# EAGLE library part 74CBTLV16210 (library 74CBTLV16210__DGG)
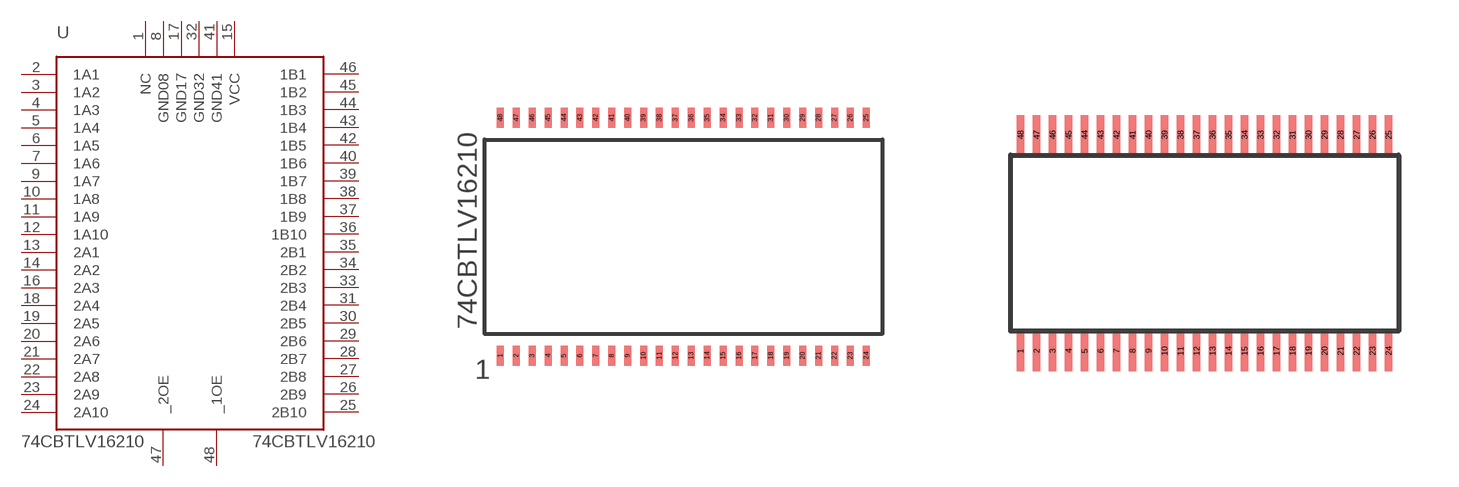
[diagram p0: symbol with the pads of 74CBTLV16210; footprints 74CBTLV16210, 74CBTLV16210_DGV]

Designator prefix -

## 74CBTLV16210DGG  [74CBTLV16210]
1  NC  nc
2  1A1
3  1A2
4  1A3
5  1A4
6  1A5
7  1A6
8  GND08  pwr
9  1A7
10  1A8
11  1A9
12  1A10
13  2A1  in
14  2A2  in
15  VCC  pwr
16  2A3  in
17  GND17  pwr
18  2A4  in
19  2A5  in
20  2A6  in
21  2A7  in
22  2A8  in
23  2A9  in
24  2A10  in
25  2B10  out
26  2B9  out
27  2B8  out
28  2B7  out
29  2B6  out
30  2B5  out
31  2B4  out
32  GND32  pwr
33  2B3  out
34  2B2  out
35  2B1  out
36  1B10  out
37  1B9  out
38  1B8  out
39  1B7  out
40  1B6  out
41  GND41  pwr
42  1B5  out
43  1B4  out
44  1B3  out
45  1B2  out
46  1B1  out
47  _2OE  out
48  _1OE  out

## 74CBTLV16210  [74CBTLV16210_DGV]
Pads as for 74CBTLV16210

## Footprint 74CBTLV16210 (pad centres in mm)
smd 0.22 x 0.625: 1 -5.75,-3.737; 2 -5.25,-3.737; 3 -4.75,-3.737; 4 -4.25,-3.737; 5 -3.75,-3.737; 6 -3.25,-3.737; 7 -2.75,-3.737; 8 -2.25,-3.737; 9 -1.75,-3.737; 10 -1.25,-3.737; 11 -0.75,-3.737; 12 -0.25,-3.737; 13 0.25,-3.737; 14 0.75,-3.737; 15 1.25,-3.737; 16 1.75,-3.737; 17 2.25,-3.737; 18 2.75,-3.737; 19 3.25,-3.737; 20 3.75,-3.737; 21 4.25,-3.737; 22 4.75,-3.737; 23 5.25,-3.737; 24 5.75,-3.737; 25 5.75,3.737; 26 5.25,3.737; 27 4.75,3.737; 28 4.25,3.737; 29 3.75,3.737; 30 3.25,3.737; 31 2.75,3.737; 32 2.25,3.737; 33 1.75,3.737; 34 1.25,3.737; 35 0.75,3.737; 36 0.25,3.737; 37 -0.25,3.737; 38 -0.75,3.737; 39 -1.25,3.737; 40 -1.75,3.737; 41 -2.25,3.737; 42 -2.75,3.737; 43 -3.25,3.737; 44 -3.75,3.737; 45 -4.25,3.737; 46 -4.75,3.737; 47 -5.25,3.737; 48 -5.75,3.737

## Footprint 74CBTLV16210_DGV (pad centres in mm)
smd 0.18 x 1: 1 -4.6,-2.7; 2 -4.2,-2.7; 3 -3.8,-2.7; 4 -3.4,-2.7; 5 -3,-2.7; 6 -2.6,-2.7; 7 -2.2,-2.7; 8 -1.8,-2.7; 9 -1.4,-2.7; 10 -1,-2.7; 11 -0.6,-2.7; 12 -0.2,-2.7; 13 0.2,-2.7; 14 0.6,-2.7; 15 1,-2.7; 16 1.4,-2.7; 17 1.8,-2.7; 18 2.2,-2.7; 19 2.6,-2.7; 20 3,-2.7; 21 3.4,-2.7; 22 3.8,-2.7; 23 4.2,-2.7; 24 4.6,-2.7; 25 4.6,2.7; 26 4.2,2.7; 27 3.8,2.7; 28 3.4,2.7; 29 3,2.7; 30 2.6,2.7; 31 2.2,2.7; 32 1.8,2.7; 33 1.4,2.7; 34 1,2.7; 35 0.6,2.7; 36 0.2,2.7; 37 -0.2,2.7; 38 -0.6,2.7; 39 -1,2.7; 40 -1.4,2.7; 41 -1.8,2.7; 42 -2.2,2.7; 43 -2.6,2.7; 44 -3,2.7; 45 -3.4,2.7; 46 -3.8,2.7; 47 -4.2,2.7; 48 -4.6,2.7